# Altium footprint library SC_TO-252AA.PcbLib: 1 footprints
Each footprint in its own frame and in the unit in brackets; x right, y up, seen from the top. Pads: shape width x height; smd on the part's side, far side on the other; paste and mask are expansions set on the pad; w line width, h text height; cw(c..) or ccw(c..) is an arc to the next point about the centre after c.
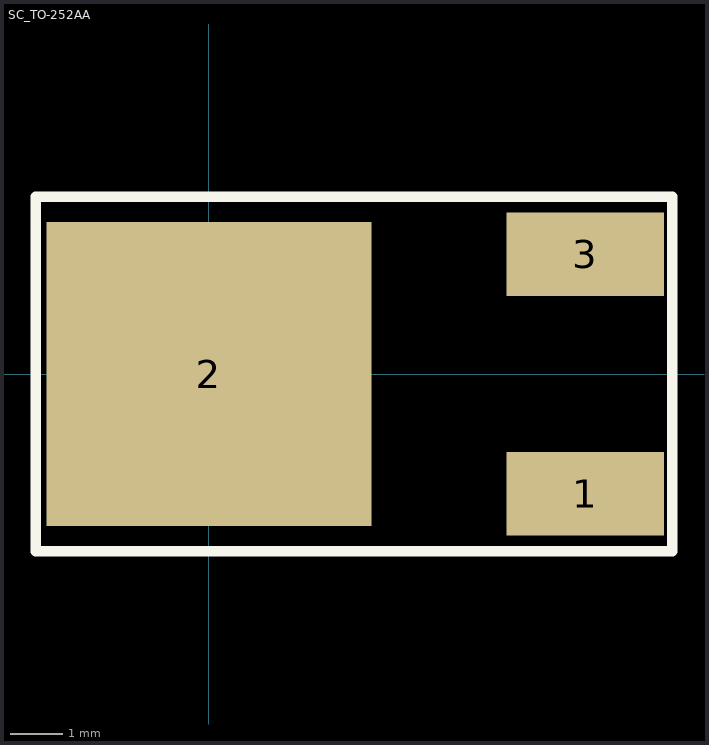
[diagram p0: the footprint, top view; thin cyan lines are the x and y axes]

## SC_TO-252AA [mm] "D-PAK"
height 2.38
pads (3):
  rect 3x1.6 smd: 1(7.18,-2.286) 3(7.18,2.286)
  rect 6.2x5.8 smd: 2(0,0)
Top Overlay:
  lines w0.2: 7.137,3.378 8.839,3.378 8.839,-3.378 -3.302,-3.378 -3.302,3.378 7.163,3.378
3D body "User Library-TO252AA.STEP": height 2.3, standoff -0.01, extent -2.7,-3.29 7,3.29